# EAGLE library part TSC2046IRGVR (library circuit_tree)
IC
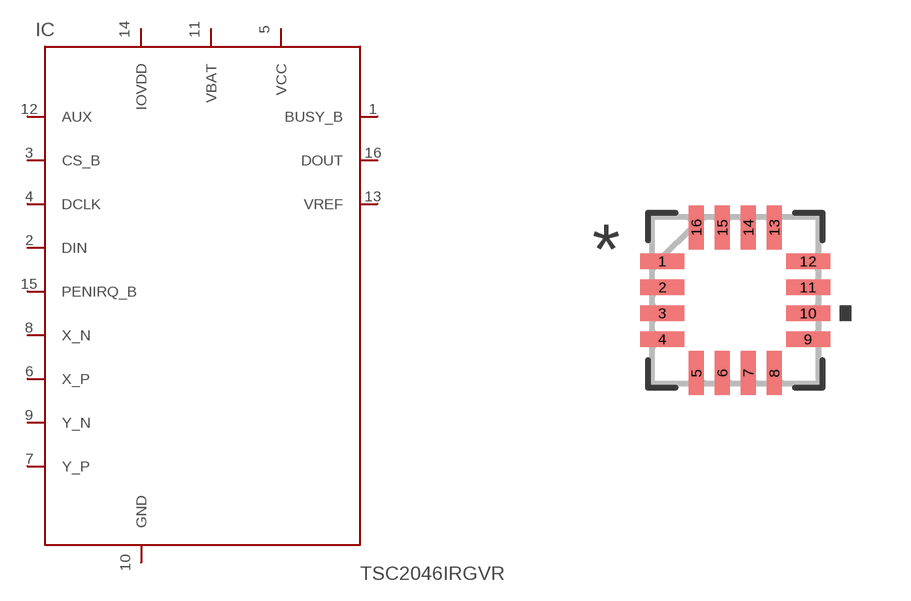
[diagram p7: symbol with the pads of VQFN-16; footprint VQFN-16]

Designator prefix IC

## TSC2046IRGVR  [VQFN-16]
1  BUSY_B  pas
2  DIN  pas
3  CS_B  pas
4  DCLK  pas
5  VCC  pas
6  X_P  pas
7  Y_P  pas
8  X_N  pas
9  Y_N  pas
10  GND  pas
11  VBAT  pas
12  AUX  pas
13  VREF  pas
14  IOVDD  pas
15  PENIRQ_B  pas
16  DOUT  pas

## Footprint VQFN-16 (pad centres in mm)
smd 1.105 x 0.381: 1 -1.822,0.975; 2 -1.822,0.325; 3 -1.822,-0.325; 4 -1.822,-0.975; 9 1.822,-0.975; 10 1.822,-0.325; 11 1.822,0.325; 12 1.822,0.975
smd 0.381 x 1.105: 5 -0.975,-1.822; 6 -0.325,-1.822; 7 0.325,-1.822; 8 0.975,-1.822; 13 0.975,1.822; 14 0.325,1.822; 15 -0.325,1.822; 16 -0.975,1.822